# Altium schematic symbol library PIF_Schematic_Lib.SchLib: 63 symbols
Pins are listed as number, name and electrical type; pins without a type are passive.

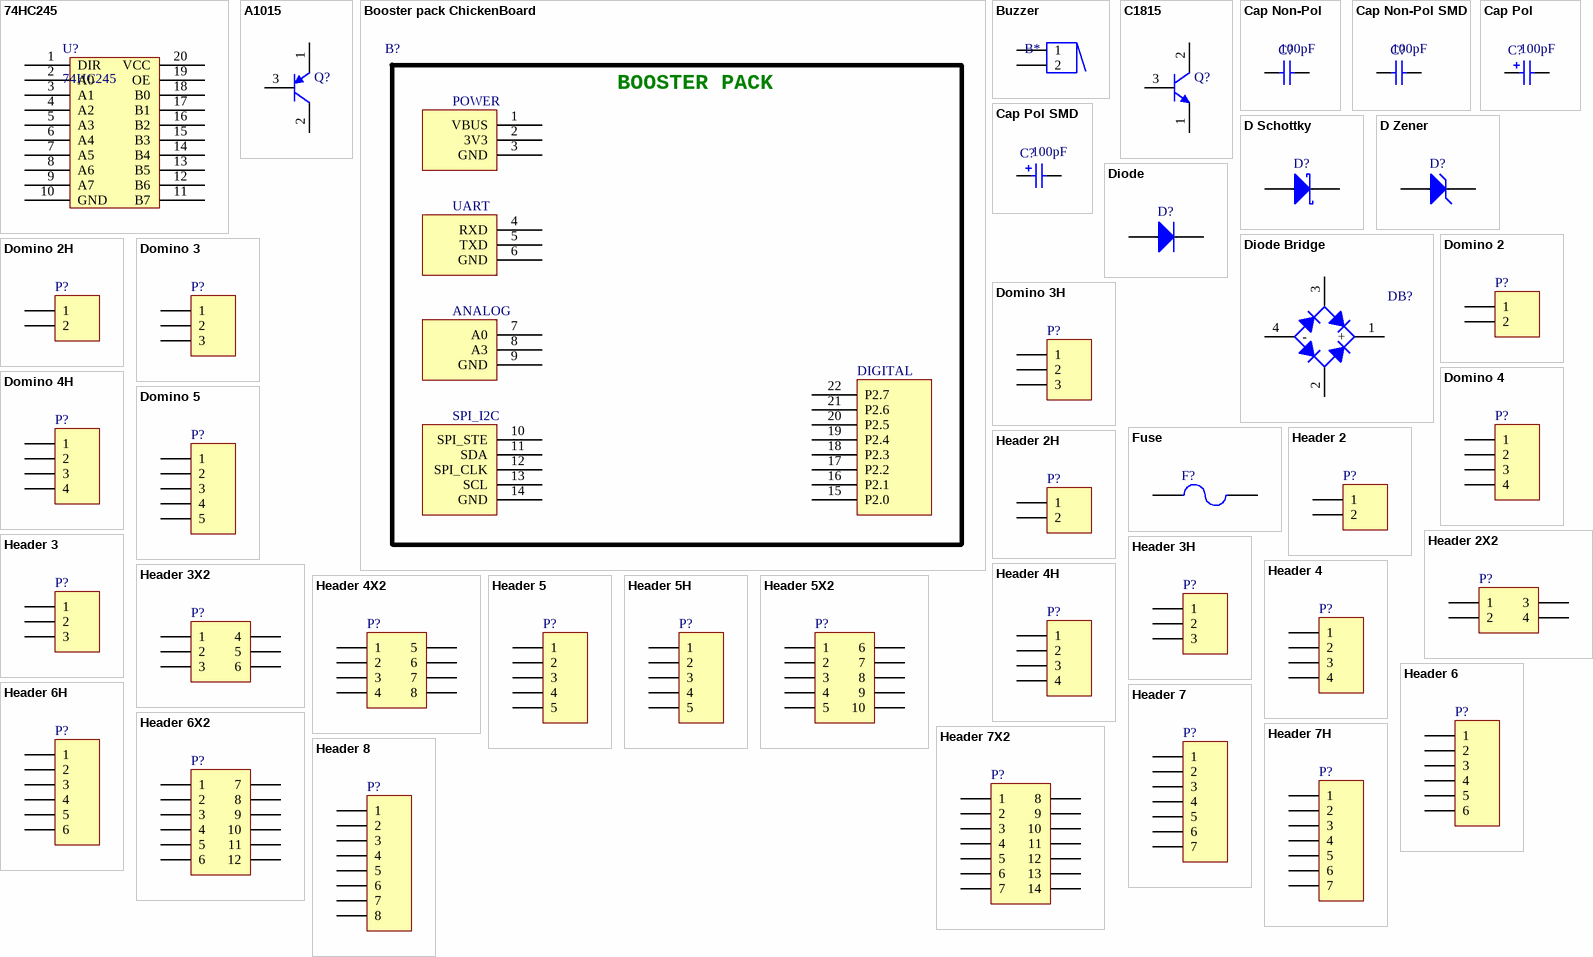
[diagram p0: symbols 74HC245 to Header 8]

## 74HC245
designator U?
Octal bus tranceiver
footprint DIP20/W0.3 (DIP 20, 20 PIN, W 300mil, Pin to pin 100mil)
pins: 1 DIR, 2 A0, 3 A1, 4 A2, 5 A3, 6 A4, 7 A5, 8 A6, 9 A7, 10 GND (power), 11 B7, 12 B6, 13 B5, 14 B4, 15 B3, 16 B2, 17 B1, 18 B0, 19 OE, 20 VCC (power)

## A1015
designator Q?  (value not drawn)
PNP Bipolar Transistor
footprint QTO-92 (TO-92)
footprint SOT23B (SOT 23B)
pins: 1 E, 2 C, 3 B

## Booster pack ChickenBoard
designator B?  (value not drawn)
footprint Booster Pack Chicken Board (Booster Pack For Chicken Board PIF)
pins: 1 VBUS, 2 3V3, 3 GND (power), 4 RXD, 5 TXD, 6 GND, 7 A0, 8 A3, 9 GND, 10 SPI_STE, 11 SDA, 12 SPI_CLK, 13 SCL, 14 GND, 15 P2.0, 16 P2.1, 17 P2.2, 18 P2.3, 19 P2.4, 20 P2.5, 21 P2.6, 22 P2.7
text: BOOSTER PACK; POWER; UART; ANALOG; DIGITAL; SPI_I2C

## Buzzer
designator B*  (value not drawn)
footprint BUZZER
footprint BUZZER SMD
pins: 1, 2

## C1815
designator Q?  (value not drawn)
NPN Bipolar Transistor
footprint QTO-92 (TO-92)
footprint SOT23B (SOT 23B)
pins: 1 E, 2 C, 3 B

## Cap Non-Pol
designator C?  value 100pF  (hidden comment: Cap Non-Pol)
Capacitor
footprint CN1
footprint CN1.5
footprint CN2
footprint CN2.5 (Tu pin to pin 250mil)
footprint CN3 (Cap np W 0.3)
footprint CN4 (Cap np W 0.4)
pins: 1, 2

## Cap Non-Pol SMD
designator C?  value 100pF  (hidden comment: Cap Non-Pol SMD)
Capacitor
footprint CAP-SM-0805
footprint CAP-SM-1206
footprint CAP-SM-1210
footprint CAP-SM-0603 (SMD Ceramic Capacitor Size 0603)
pins: 1, 2

## Cap Pol
designator C?  value 100pF  (hidden comment: Cap Pol)
Polarized Capacitor (Radial)
footprint CP1/2 (Tu hoa < 22uF/16>50V)
footprint CP1/2N (Tu hoa < 22uF/16>50V)
footprint CP1/2.5 (Tu hoa 33 >100 uF,50V, 220uF/16V,25V)
footprint CP1.5/3.4 (Tu hoa 220->470uF,16V, 470uF/16V,25V)
footprint CP2/4 (Tu hoa 1000uF/16V/25V)
footprint CP2/5 (Tu hoa 1000uF/25V,50V)
footprint CP3/7 (Tu hoa 4700uF/25V)
footprint CP4/8.5 (Tu hoa 4700uF/50V)
footprint CP4/12 (Tu hoa 220uF/450V)
footprint CP4.5/19 (Tu hoa 10,000uF/63V)
pins: 1, 2
1 alternate drawing of the same symbol

## Cap Pol SMD
designator C?  value 100pF  (hidden comment: Cap Pol SMD)
Polarized Capacitor (Radial)
footprint CAP ALU SIZE B (Capacitor, Aluminium Electrolytric, 4.3mm L X 4.3mm W X 5.4mm H, IPC Medium Density)
footprint CAP ALU SIZE C (Capacitor, Aluminium Electrolytric, 8.3mm L X 8.3mm W X 6.2mm H, IPC Medium Density)
footprint CAP ALU SIZE D (Capacitor, Aluminium Electrolytric, 6.6mm L X 6.6mm W X 5.4mm H, IPC Medium Density)
footprint CAP ALU SIZE E (Capacitor, Aluminium Electrolytric, 8.3mm L X 8.3mm W X 6.2mm H, IPC Medium Density)
footprint CAP ALU SIZE F (Capacitor, Aluminium Electrolytric, 8.3mm L X 8.3mm W X 10.2mm H, IPC Medium Density)
footprint CAP ALU SIZE G (Capacitor, Aluminium Electrolytric, 10.3mm L X 10.3mm W X 10.2mm H, IPC Medium Density)
pins: 1, 2
1 alternate drawing of the same symbol

## D Schottky
designator D?  (value not drawn)
Schottky Diode; Published: 8-Jun-2000; LatestRevisionDate: 17-Jul-2002; LatestRevisionNote: Re-released for DXP Platform.; PackageReference: SMB; Publisher: Altium Limited; PackageDescription: DO-214-AA/SMB; 2 C-Bend Leads; Body 5.3 x 3.6 mm, inc. leads (LxW); Code_JEDEC: DO-214-AA
footprint SS34 (DO-214-AC/SMA Molded Diode, Body 5.3x2.6mm, IPC Medium Density)
pins: 1 A, 2 K

## D Zener
designator D?  (value not drawn)
Zener Diode
pins: 1 A, 2 K

## Diode
designator D?  (value not drawn)
Default Diode
footprint D1A (Diode 1A, W 100mil, L 350mil)
pins: 1 A, 2 K

## Diode Bridge
designator DB?, comment Diode Rectifier  (value not drawn)
3 Amp Single Phase Rectifier Bridge; PackageReference: KBP206; PackageDescription: Bridge Rectifier; 4 Terminals; Body 16.8 x 16.8 mm (typ); Pitch 10.67 mm
footprint DIODE BRIDGE (Diode Bridge Rectifier, footprint KBP(4))
pins: 1 +, 2 C, 3 AC, 4 -

## Domino 2
designator P?  (value not drawn)
Domino, 2-Pin; LatestRevisionDate: 17-Jul-2002; LatestRevisionNote: Re-released for DXP Platform.; Publisher: Altium Limited
footprint DOMINO 2- 5mm
footprint DOMINO SMALL 2 (3.5 mm)
pins: 1, 2

## Domino 2H
designator P?  (value not drawn)
Domino 2-Pin, Right Angle; LatestRevisionDate: 17-Jul-2002; LatestRevisionNote: Re-released for DXP Platform.; Publisher: Altium Limited
footprint DOMINO 2-5mm -H
pins: 1, 2

## Domino 3
designator P?  (value not drawn)
Domino 3-Pin; LatestRevisionDate: 17-Jul-2002; LatestRevisionNote: Re-released for DXP Platform.; Publisher: Altium Limited
footprint DOMINO SMALL 3
footprint DOMINO 3-5mm
pins: 1, 2, 3

## Domino 3H
designator P?  (value not drawn)
Domino 3-Pin, Right Angle; LatestRevisionDate: 17-Jul-2002; LatestRevisionNote: Re-released for DXP Platform.; Publisher: Altium Limited
footprint DOMINO 3 - 5mm-H
pins: 1, 2, 3

## Domino 4
designator P?  (value not drawn)
Domino 4-Pin; LatestRevisionDate: 17-Jul-2002; LatestRevisionNote: Re-released for DXP Platform.; Publisher: Altium Limited
footprint DOMINO 4 -5mm
pins: 1, 2, 3, 4

## Domino 4H
designator P?  (value not drawn)
Domino 4-Pin,Right Angle; LatestRevisionDate: 17-Jul-2002; LatestRevisionNote: Re-released for DXP Platform.; Publisher: Altium Limited
footprint DOMINO 4 - 5mm-H
pins: 1, 2, 3, 4

## Domino 5
designator P?  (value not drawn)
Domino 5-Pin; LatestRevisionDate: 17-Jul-2002; LatestRevisionNote: Re-released for DXP Platform.; Publisher: Altium Limited
footprint DOMINO 5 - 5mm
pins: 1, 2, 3, 4, 5

## Fuse
designator F?  (value not drawn)
footprint FUSE (De Fuse)
footprint FUSE SMD (SMD FUSE)
pins: 1, 2

## Header 2
designator P?  (value not drawn)
Header, 2-Pin; LatestRevisionDate: 17-Jul-2002; LatestRevisionNote: Re-released for DXP Platform.; Publisher: Altium Limited
footprint JP2
pins: 1, 2

## Header 2H
designator P?  (value not drawn)
Header, 2-Pin, Right Angle; LatestRevisionDate: 17-Jul-2002; LatestRevisionNote: Re-released for DXP Platform.; Publisher: Altium Limited
footprint JP2H
pins: 1, 2

## Header 2X2
designator P?  (value not drawn)
Header, 2-Pin, Dual row; LatestRevisionDate: 17-Jul-2002; LatestRevisionNote: Re-released for DXP Platform.; Publisher: Altium Limited
footprint JP2X2
footprint JP2X2H
pins: 1, 2, 3, 4

## Header 3
designator P?  (value not drawn)
Header, 3-Pin; LatestRevisionDate: 17-Jul-2002; LatestRevisionNote: Re-released for DXP Platform.; Publisher: Altium Limited
footprint JP3 (Jumper 3)
pins: 1, 2, 3

## Header 3H
designator P?  (value not drawn)
Header, 3-Pin, Right Angle; LatestRevisionDate: 17-Jul-2002; LatestRevisionNote: Re-released for DXP Platform.; Publisher: Altium Limited
footprint JP3H
pins: 1, 2, 3

## Header 3X2
designator P?  (value not drawn)
Header, 3-Pin, Dual row; LatestRevisionDate: 17-Jul-2002; LatestRevisionNote: Re-released for DXP Platform.; Publisher: Altium Limited
footprint JP3x2 (Connector 3x2)
pins: 1, 2, 3, 4, 5, 6

## Header 4
designator P?  (value not drawn)
Header, 4-Pin; LatestRevisionDate: 17-Jul-2002; LatestRevisionNote: Re-released for DXP Platform.; Publisher: Altium Limited
footprint JP4 (Jumper 4)
pins: 1, 2, 3, 4

## Header 4H
designator P?  (value not drawn)
Header, 4-Pin, Right Angle; LatestRevisionDate: 17-Jul-2002; LatestRevisionNote: Re-released for DXP Platform.; Publisher: Altium Limited
footprint JP4H
pins: 1, 2, 3, 4

## Header 4X2
designator P?  (value not drawn)
Header, 4-Pin, Dual row; LatestRevisionDate: 17-Jul-2002; LatestRevisionNote: Re-released for DXP Platform.; Publisher: Altium Limited
footprint JP4x2 (Connector 4x2)
pins: 1, 2, 3, 4, 5, 6, 7, 8

## Header 5
designator P?  (value not drawn)
Header, 5-Pin; LatestRevisionDate: 17-Jul-2002; LatestRevisionNote: Re-released for DXP Platform.; Publisher: Altium Limited
footprint JP5
pins: 1, 2, 3, 4, 5

## Header 5H
designator P?  (value not drawn)
Header, 5-Pin, Right Angle; LatestRevisionDate: 17-Jul-2002; LatestRevisionNote: Re-released for DXP Platform.; Publisher: Altium Limited
footprint JP5H
pins: 1, 2, 3, 4, 5

## Header 5X2
designator P?  (value not drawn)
Header, 5-Pin, Dual row; LatestRevisionDate: 17-Jul-2002; LatestRevisionNote: Re-released for DXP Platform.; Publisher: Altium Limited
footprint JP5X2
pins: 1, 2, 3, 4, 5, 6, 7, 8, 9, 10

## Header 6
designator P?  (value not drawn)
Header, 6-Pin; LatestRevisionDate: 17-Jul-2002; LatestRevisionNote: Re-released for DXP Platform.; Publisher: Altium Limited
footprint JP6
pins: 1, 2, 3, 4, 5, 6

## Header 6H
designator P?  (value not drawn)
Header, 6-Pin, Right Angle; LatestRevisionDate: 17-Jul-2002; LatestRevisionNote: Re-released for DXP Platform.; Publisher: Altium Limited
footprint JP6H
pins: 1, 2, 3, 4, 5, 6

## Header 6X2
designator P?  (value not drawn)
Header, 6-Pin, Dual row; LatestRevisionDate: 17-Jul-2002; LatestRevisionNote: Re-released for DXP Platform.; Publisher: Altium Limited
footprint JP6X2
pins: 1, 2, 3, 4, 5, 6, 7, 8, 9, 10, 11, 12

## Header 7
designator P?  (value not drawn)
Header, 7-Pin; LatestRevisionDate: 17-Jul-2002; LatestRevisionNote: Re-released for DXP Platform.; Publisher: Altium Limited
footprint JP8
pins: 1, 2, 3, 4, 5, 6, 7

## Header 7H
designator P?  (value not drawn)
Header, 7-Pin, Right Angle; LatestRevisionDate: 17-Jul-2002; LatestRevisionNote: Re-released for DXP Platform.; Publisher: Altium Limited
footprint JP7H
pins: 1, 2, 3, 4, 5, 6, 7

## Header 7X2
designator P?  (value not drawn)
Header, 7-Pin, Dual row; LatestRevisionDate: 17-Jul-2002; LatestRevisionNote: Re-released for DXP Platform.; Publisher: Altium Limited
footprint JP7X2
pins: 1, 2, 3, 4, 5, 6, 7, 8, 9, 10, 11, 12, 13, 14

## Header 8
designator P?  (value not drawn)
Header, 8-Pin; LatestRevisionDate: 17-Jul-2002; LatestRevisionNote: Re-released for DXP Platform.; Publisher: Altium Limited
footprint JP8
pins: 1, 2, 3, 4, 5, 6, 7, 8

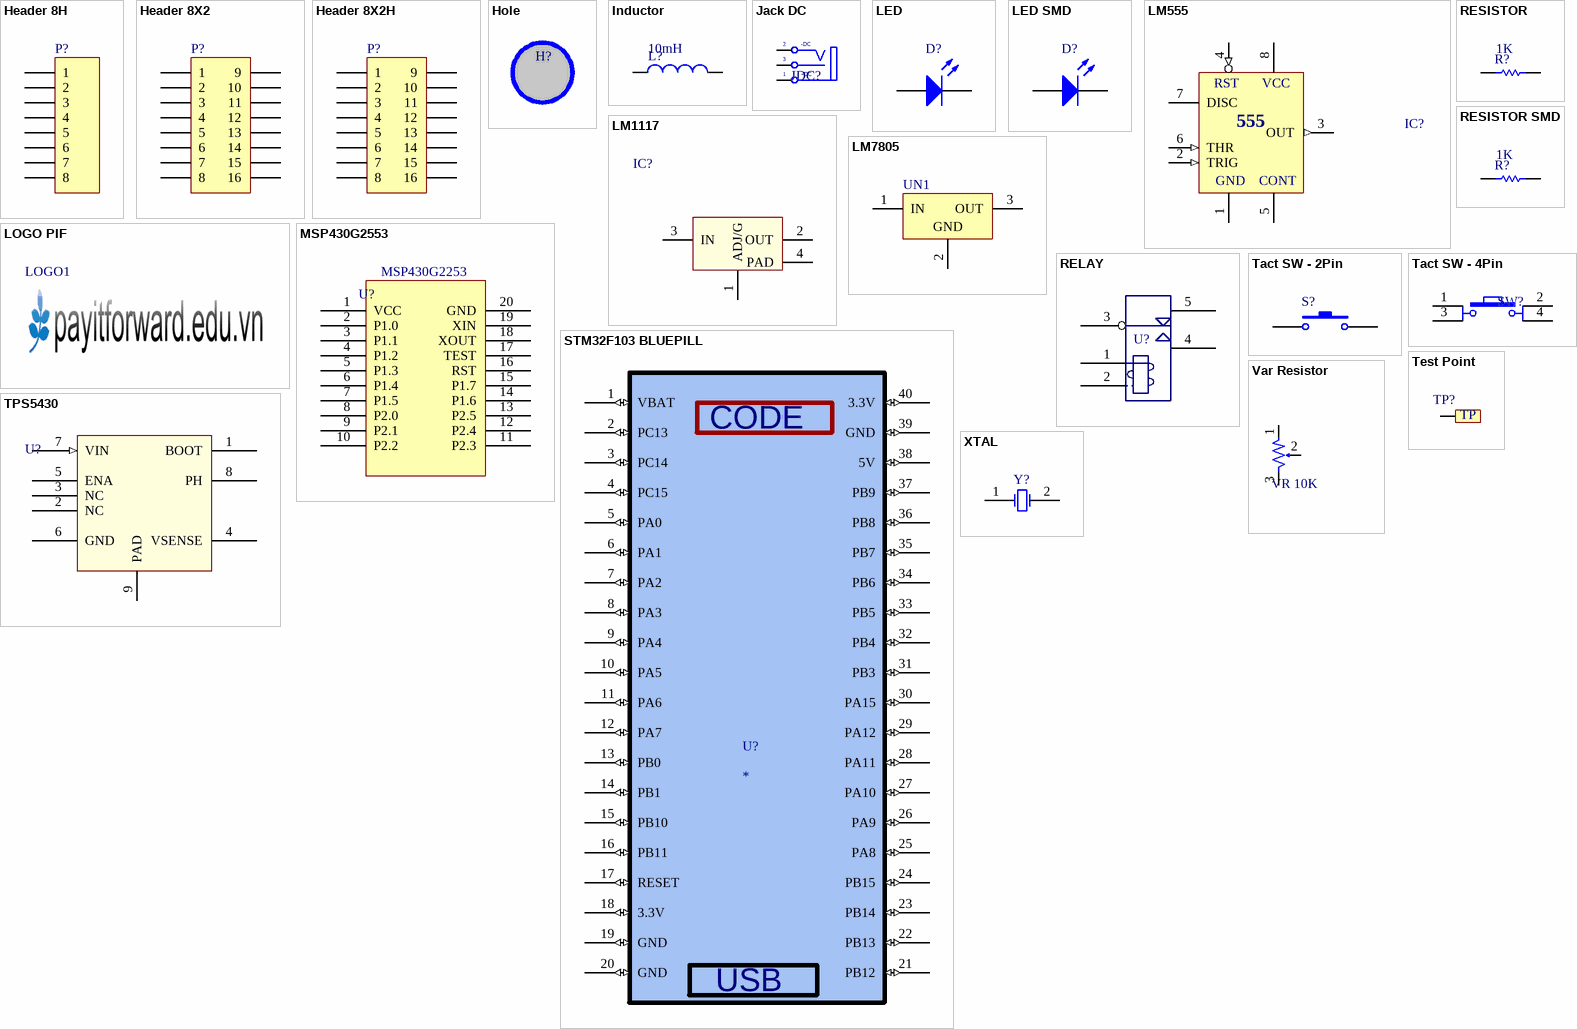
[diagram p1: symbols Header 8H to XTAL]

## Header 8H
designator P?  (value not drawn)
Header, 8-Pin, Right Angle; LatestRevisionDate: 17-Jul-2002; LatestRevisionNote: Re-released for DXP Platform.; Publisher: Altium Limited
footprint JP8H
pins: 1, 2, 3, 4, 5, 6, 7, 8

## Header 8X2
designator P?  (value not drawn)
Header, 8-Pin, Dual row; LatestRevisionDate: 17-Jul-2002; LatestRevisionNote: Re-released for DXP Platform.; Publisher: Altium Limited
footprint JP8X2
pins: 1, 2, 3, 4, 5, 6, 7, 8, 9, 10, 11, 12, 13, 14, 15, 16

## Header 8X2H
designator P?  (value not drawn)
Header, 8-Pin, Dual row, Right Angle; LatestRevisionDate: 17-Jul-2002; LatestRevisionNote: Re-released for DXP Platform.; Publisher: Altium Limited
footprint JP8x2H
pins: 1, 2, 3, 4, 5, 6, 7, 8, 9, 10, 11, 12, 13, 14, 15, 16

## Hole
designator H?  (value not drawn)
Hole 3mm
footprint LO KHOAN 3MM
pins: 1 hidden

## Inductor
designator L?  value 10mH  (hidden comment: Inductor)
footprint INDUCTOR 12.5x12.5 (SMD Inductor  Body Width 12.5mm Body Lenght 12.5mm Height 8mm)
pins: 1, 2

## Jack DC
designator JDC?  (value not drawn)
Jack DC input; Value: Jac DC
footprint DC-IN (Jac DC input)
pins: 1 T "Tip", 2 TN "Tip Normal (Break Contact)", 3 S (power) "Sleeve (Ground)"
text: -DC; +DC

## LED
designator D?  (value not drawn)
footprint LED-3mm (LED 2 PIN, 3ly Only colour)
footprint LED-5mm (LED 2 PIN, 5 ly , Only colour, pin to pin 110mil)
pins: 1 A, 2 K

## LED SMD
designator D?  (value not drawn)
LED
footprint LED_0603_Blue (Chip LED, 2-Leads, Body 1.6x0.8mm, IPC Medium Density)
footprint LED_0805_Blue (Chip LED, 2-Leads, Body 2.0x1.3mm, IPC Medium Density)
footprint LED_1206_Blue (Chip LED, 2-Leads, Body 3.2x1.6mm, IPC Medium Density)
pins: 1 A, 2 K

## LM555
designator IC?  (value not drawn)
Timer; Value: LM555
footprint DIP8/W0.3 (8 PIN, W 300mil, Pin to pin 100mil)
pins: 1 GND (power), 2 TRIG (in), 3 OUT (out), 4 RST (in), 5 CONT, 6 THR (in), 7 DISC (oc), 8 VCC (power)
text: 555

## LM1117
designator IC?  (value not drawn)
Available in 1.8V, 2.5V, 2.85V, 3.3V, 5V, and  Adjustable Versions; Value: LM317
footprint SOT223-4N (SOT223, 4-Leads, Body 6.5x3.5mm, Pitch 2.3mm, Lead Span 7mm, IPC Medium Density)
pins: 1 ADJ/G, 2 OUT, 3 IN, 4 PAD

## LM7805
designator UN1  (value not drawn)
Positive Voltage Regulator
footprint QTO-220 (TO-220 - 1-2-3)
pins: 1 IN (power), 2 GND (power), 3 OUT (power)

## LOGO PIF
designator LOGO1  (value not drawn)
footprint PIF LOGO SMALL TOP
footprint PIF LOGO BIG SSTOP
footprint PIF LOGO BIG TOP
footprint PIF LOGO SMALL TOP
footprint PIF LOGO SMALL SSTOP

## MSP430G2553
designator U?  (value not drawn)
footprint DIP20/W0.3 (DIP 20, 20 PIN, W 300mil, Pin to pin 100mil)
pins: 1 VCC, 2 P1.0, 3 P1.1, 4 P1.2, 5 P1.3, 6 P1.4, 7 P1.5, 8 P2.0, 9 P2.1, 10 P2.2, 11 P2.3, 12 P2.4, 13 P2.5, 14 P1.6, 15 P1.7, 16 RST, 17 TEST, 18 XOUT, 19 XIN, 20 GND
text: MSP430G2253

## RELAY
designator U?
Relay 10A
footprint RL_SPDT_10A (Relay SPDT, 5 pin, 10A,W 650mil, L 800mil, H 800mil)
pins: 1, 2, 3, 4, 5

## RESISTOR
designator R?  value 1K  (hidden comment: RESISTOR)
footprint RES 1/2W (R 1/2W, 2 pin, 300mil)
footprint RES 1/4 W
pins: 1, 2

## RESISTOR SMD
designator R?  value 1K
Resistor
footprint RES-SM-0603
footprint RES-SM-0805
footprint RES-SM-1206
pins: 1, 2

## STM32F103 BLUEPILL
designator U?
footprint STM32F103 Bluepill
pins: 1 VBAT (io), 2 PC13 (io), 3 PC14 (io), 4 PC15 (io), 5 PA0 (io), 6 PA1 (io), 7 PA2 (io), 8 PA3 (io), 9 PA4 (io), 10 PA5 (io), 11 PA6 (io), 12 PA7 (io), 13 PB0 (io), 14 PB1 (io), 15 PB10 (io), 16 PB11 (io), 17 RESET (io), 18 3.3V (io), 19 GND (io), 20 GND (io), 21 PB12 (io), 22 PB13 (io), 23 PB14 (io), 24 PB15 (io), 25 PA8 (io), 26 PA9 (io), 27 PA10 (io), 28 PA11 (io), 29 PA12 (io), 30 PA15 (io), 31 PB3 (io), 32 PB4 (io), 33 PB5 (io), 34 PB6 (io), 35 PB7 (io), 36 PB8 (io), 37 PB9 (io), 38 5V (io), 39 GND (io), 40 3.3V (io)
text: CODE; USB

## Tact SW - 2Pin
designator S?  (value not drawn)
Switch button 2 pin
footprint SW2 (SW button 2pin, 250x 250 mil)
footprint SW-SMD (Switch SMD type)
pins: 1, 2

## Tact SW - 4Pin
designator SW?, comment SW  (value not drawn)
Switch button 4 pin; Value: Button chip 4 pin
footprint Tact SW 4 pin (SW button 4pin, 250 x250 mil)
pins: 1, 2, 3, 4

## Test Point
designator TP?
footprint TP (Connect 1)
pins: TP1 0
text: TP

## TPS5430
designator U?  (value not drawn)
PMIC - Voltage Regulators - DC DC Switching Regulators; Manufacturer_Part_Number: tps5430-ep_dda_8; GENERIC_PART_NUMBER: TPS5430-EP; Vendor: Texas Instruments; PACKAGE_DESIGNATOR: DDA; PIN_COUNT: 8; FAMILY_NAME: STEP-DOWN REGULATOR; INDUSTRY_STD_PKG_TYPE: SO PowerPAD; Datasheet URL: http://www.ti.com/lit/gpn/TPS5430-EP; Manufacturer: Texas Instruments; RefDes: RefDes; Type: DEV; Value: Value
footprint DDA8
pins: 1 BOOT, 2 NC, 3 NC, 4 VSENSE, 5 ENA, 6 GND (power), 7 VIN (in), 8 PH, 9 PAD

## Var Resistor
designator VR?, comment value VR 10K  (hidden comment: 10K)
Var Resistor
footprint Varistor 1 (Resistor Variable)
footprint VARISTOR 2 (Resistor Variable)
pins: 1, 2, 3

## XTAL
designator Y?  (value not drawn)
Crystal Oscillator; Published: 8-Jun-2000; LatestRevisionDate: 17-Jul-2002; LatestRevisionNote: Re-released for DXP Platform.; PackageReference: R38; Publisher: Altium Limited; PackageDescription: Crystal, Thru-Hole; 2 Leads; Body 3.1 x 8.2 mm (Dia.xH)
footprint XT2 (Footpin for Crystal 2 pin)
footprint XTAL 32KN (Crystal for 32,768kHz, 2pin)
pins: 1 OSC1, 2 OSC2